# Altium schematic symbol library ICs-Sensor.SchLib: 3 symbols
Pins are listed as number, name and electrical type; pins without a type are passive.

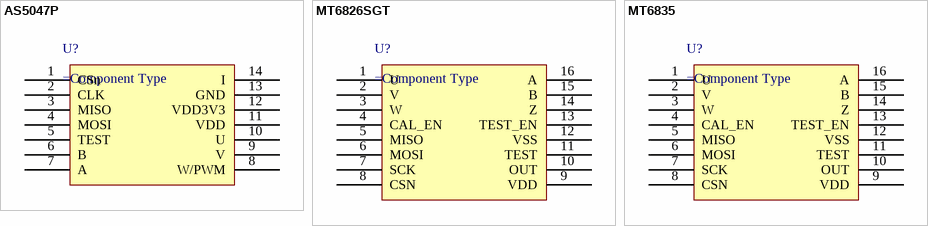
[diagram p0: symbols AS5047P to MT6835]

## AS5047P
designator U?
pins: 1 CSn, 2 CLK, 3 MISO, 4 MOSI, 5 TEST, 6 B, 7 A, 8 W/PWM, 9 V, 10 U, 11 VDD, 12 VDD3V3, 13 GND, 14 I

## MT6826SGT
designator U?
pins: 1 U, 2 V, 3 W, 4 CAL_EN, 5 MISO, 6 MOSI, 7 SCK, 8 CSN, 9 VDD, 10 OUT, 11 TEST, 12 VSS, 13 TEST_EN, 14 Z, 15 B, 16 A

## MT6835
designator U?
pins: 1 U, 2 V, 3 W, 4 CAL_EN, 5 MISO, 6 MOSI, 7 SCK, 8 CSN, 9 VDD, 10 OUT, 11 TEST, 12 VSS, 13 TEST_EN, 14 Z, 15 B, 16 A